# EAGLE library part ADS131M03IRUKT (library ADS131M03IRUKT)
Analog to Digital Converters - ADC 24-bit, 32-kSPS, 3-channel, simultaneous-sampling, delta-sigma ADC 20-WQFN -40 to 125 Source: Datasheet <https://www.ti.com/lit/gpn/ads131m03>
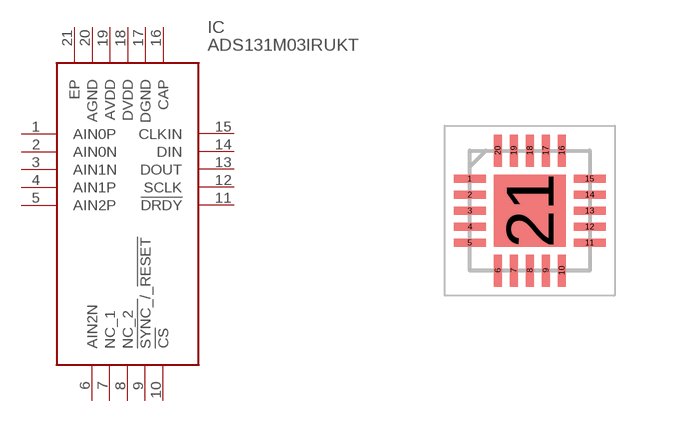
[diagram p0: symbol with the pads of QFN40P300X300X80-21N; footprint QFN40P300X300X80-21N]

Designator prefix IC

## ADS131M03IRUKT (Description: Analog to Digital Converters - ADC 24-bit, 32-kSPS, 3-channel, simultaneous-sampling, delta-sigma ADC 20-WQFN -40 to 125; Height: 0.8mm; Manufacturer_Name: Texas Instruments; Manufacturer_Part_Number: ADS131M03IRUKT)  [QFN40P300X300X80-21N]
1  AIN0P
2  AIN0N
3  AIN1N
4  AIN1P
5  AIN2P
6  AIN2N
7  NC_1
8  NC_2
9  !SYNC_!/_!RESET
10  !CS
11  !DRDY
12  SCLK
13  DOUT
14  DIN
15  CLKIN
16  CAP
17  DGND
18  DVDD
19  AVDD
20  AGND
21  EP

## Footprint QFN40P300X300X80-21N (pad centres in mm)
RUK (S-PWQFN-N20)
smd 0.8 x 0.2: 1 -1.5,0.8; 2 -1.5,0.4; 3 -1.5,0; 4 -1.5,-0.4; 5 -1.5,-0.8; 11 1.5,-0.8; 12 1.5,-0.4; 13 1.5,0; 14 1.5,0.4; 15 1.5,0.8
smd 0.2 x 0.8: 6 -0.8,-1.5; 7 -0.4,-1.5; 8 0,-1.5; 9 0.4,-1.5; 10 0.8,-1.5; 16 0.8,1.5; 17 0.4,1.5; 18 0,1.5; 19 -0.4,1.5; 20 -0.8,1.5
smd 1.8 x 1.8: 21 0,0